# EAGLE library part DS12885 (library F030NG)
RTC / DS12885
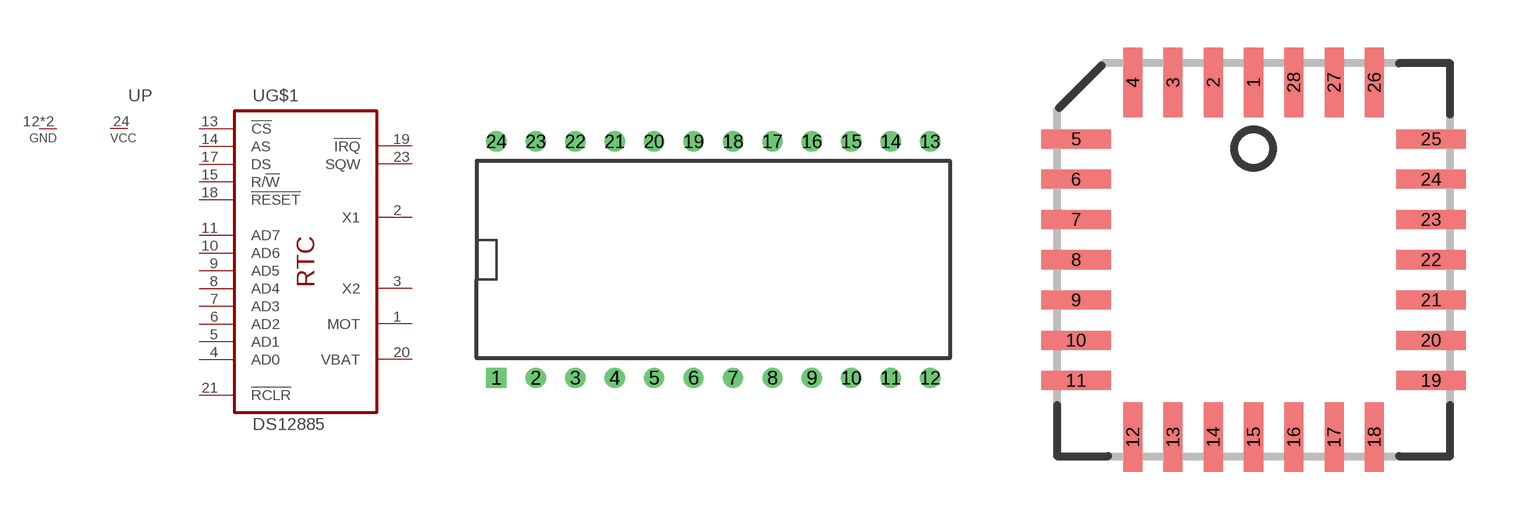
[diagram p7: symbol with the pads of DIL24W; footprints DIL24W, PLCC28]

Designator prefix U; gates G$1=DS12885 P=1VCC_1GND

## DS12885-DIL  [DIL24W]
1  G$1:MOT  in
2  G$1:X1  in
3  G$1:X2  out
4  G$1:AD0
5  G$1:AD1
6  G$1:AD2
7  G$1:AD3
8  G$1:AD4
9  G$1:AD5
10  G$1:AD6
11  G$1:AD7
12  P:GND  pwr
13  G$1:!CS!  in
14  G$1:AS  in
15  G$1:R/!W!  in
16  P:GND  pwr
17  G$1:DS  in
18  G$1:!RESET!  in
19  G$1:!IRQ!  out
20  G$1:VBAT  sup
21  G$1:!RCLR!  in
23  G$1:SQW  out
24  P:VCC  pwr

## DS12885-PLCC28  [PLCC28]
2  G$1:MOT  in
3  G$1:X1  in
4  G$1:X2  out
5  G$1:AD0
6  G$1:AD1
7  G$1:AD2
8  G$1:AD3
9  G$1:AD4
10  G$1:AD5
12  G$1:AD6
14  G$1:AD7
15  P:GND  pwr
16  G$1:!CS!  in
17  G$1:AS  in
19  G$1:R/!W!  in
20  P:GND  pwr
21  G$1:DS  in
22  G$1:!RESET!  in
23  G$1:!IRQ!  out
24  G$1:VBAT  sup
25  G$1:!RCLR!  in
27  G$1:SQW  out
28  P:VCC  pwr

## DS12885-TQFP32  [TQFP32-08]
1  G$1:AD0
2  G$1:AD1
3  G$1:AD2
5  G$1:AD3
7  G$1:AD4
8  G$1:AD5
9  G$1:AD6
11  G$1:AD7
12  P:GND  pwr
13  G$1:!CS!  in
14  G$1:AS  in
16  G$1:R/!W!  in
17  P:GND  pwr
18  G$1:DS  in
19  G$1:!RESET!  in
21  G$1:!IRQ!  out
22  G$1:VBAT  sup
24  G$1:!RCLR!  in
26  G$1:SQW  out
28  P:VCC  pwr
29  G$1:MOT  in
30  G$1:X1  in
31  G$1:X2  out

## DS12885-SO24  [SOIC24]
Pads as for DIL24W

## Footprint DIL24W (pad centres in mm)
Dual In Line Package
drill 0.8 square: 1 -13.97,-7.62
drill 0.8: 2 -11.43,-7.62; 3 -8.89,-7.62; 4 -6.35,-7.62; 5 -3.81,-7.62; 6 -1.27,-7.62; 7 1.27,-7.62; 8 3.81,-7.62; 9 6.35,-7.62; 10 8.89,-7.62; 11 11.43,-7.62; 12 13.97,-7.62; 13 13.97,7.62; 14 11.43,7.62; 15 8.89,7.62; 16 6.35,7.62; 17 3.81,7.62; 18 1.27,7.62; 19 -1.27,7.62; 20 -3.81,7.62; 21 -6.35,7.62; 22 -8.89,7.62; 23 -11.43,7.62; 24 -13.97,7.62

## Footprint PLCC28 (pad centres in mm)
smd 0.6 x 2.2: 1 0,5.6; 2 -1.27,5.6; 3 -2.54,5.6; 4 -3.81,5.6; 12 -3.81,-5.6; 13 -2.54,-5.6; 14 -1.27,-5.6; 15 0,-5.6; 16 1.27,-5.6; 17 2.54,-5.6; 18 3.81,-5.6; 26 3.81,5.6; 27 2.54,5.6; 28 1.27,5.6
smd 2.2 x 0.6: 5 -5.6,3.81; 6 -5.6,2.54; 7 -5.6,1.27; 8 -5.6,0; 9 -5.6,-1.27; 10 -5.6,-2.54; 11 -5.6,-3.81; 19 5.6,-3.81; 20 5.6,-2.54; 21 5.6,-1.27; 22 5.6,0; 23 5.6,1.27; 24 5.6,2.54; 25 5.6,3.81

## Footprint TQFP32-08 (pad centres in mm)
Thin Plasic Quad Flat Package Grid 0.8 mm
smd 1.27 x 0.559: 1 -4.293,2.8; 2 -4.293,2; 3 -4.293,1.2; 4 -4.293,0.4; 5 -4.293,-0.4; 6 -4.293,-1.2; 7 -4.293,-2; 8 -4.293,-2.8; 17 4.293,-2.8; 18 4.293,-2; 19 4.293,-1.2; 20 4.293,-0.4; 21 4.293,0.4; 22 4.293,1.2; 23 4.293,2; 24 4.293,2.8
smd 0.559 x 1.27: 9 -2.8,-4.293; 10 -2,-4.293; 11 -1.2,-4.293; 12 -0.4,-4.293; 13 0.4,-4.293; 14 1.2,-4.293; 15 2,-4.293; 16 2.8,-4.293; 25 2.8,4.293; 26 2,4.293; 27 1.2,4.293; 28 0.4,4.293; 29 -0.4,4.293; 30 -1.2,4.293; 31 -2,4.293; 32 -2.8,4.293

## Footprint SOIC24 (pad centres in mm)
SMALL OUTLINE INTEGRATED CIRCUIT 7,6 mm wide body
smd 0.6 x 2: 1 -6.985,-4.65; 2 -5.715,-4.65; 3 -4.445,-4.65; 4 -3.175,-4.65; 5 -1.905,-4.65; 6 -0.635,-4.65; 7 0.635,-4.65; 8 1.905,-4.65; 9 3.175,-4.65; 10 4.445,-4.65; 11 5.715,-4.65; 12 6.985,-4.65; 13 6.985,4.65; 14 5.715,4.65; 15 4.445,4.65; 16 3.175,4.65; 17 1.905,4.65; 18 0.635,4.65; 19 -0.635,4.65; 20 -1.905,4.65; 21 -3.175,4.65; 22 -4.445,4.65; 23 -5.715,4.65; 24 -6.985,4.65